# Altium integrated library Technik RCA Phono Jack.IntLib: 5 symbols
Pins are listed as number, name and electrical type; pins without a type are passive.

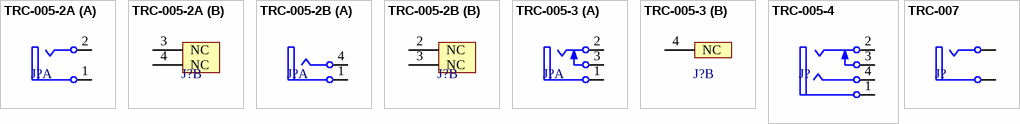
[diagram p0: symbols TRC-005-2A to TRC-007]

## TRC-005-2A
designator J?
RCA Phono Jack, Right Angle, Thru-Hole, Snap-In, 2-Conductor Open Circuit; PCB_Layout: Complies with manufacturer's recommendation.; DrillAndSlotSize: Corresponds to nominal value.; Published: 6-Jun-2005; DatasheetDocument: 29-Sep-2003; PackageDocument: 29-Sep-2003; PackageReference: TRC-005; Publisher: Altium Limited; ComponentLink1Description: Manufacturer Link; ComponentLink1URL: http://www.technik.com.hk/products/pop.asp?refno=TRC-005; ComponentLink2Description: Datasheet; ComponentLink2URL: http://www.technik.com.hk/files/RC005-PBT.pdf
footprint TRC-005 (RCA Phono Jack, Right Angle, Thru-Hole, Body 20.8 x 9.8 x 11 mm (LxWxH))
part A pins: 1 Black, 2 Yellow
part B pins: 3 NC "Not Connected", 4 NC "Not Connected"

## TRC-005-2B
designator J?
RCA Phono Jack, Right Angle, Thru-Hole, Snap-In, 2-Conductor Open Circuit; PCB_Layout: Complies with manufacturer's recommendation.; DrillAndSlotSize: Corresponds to nominal value.; Published: 6-Jun-2005; DatasheetDocument: 29-Sep-2003; PackageDocument: 29-Sep-2003; PackageReference: TRC-005; Publisher: Altium Limited; ComponentLink1Description: Manufacturer Link; ComponentLink1URL: http://www.technik.com.hk/products/pop.asp?refno=TRC-005; ComponentLink2Description: Datasheet; ComponentLink2URL: http://www.technik.com.hk/files/RC005-PBT.pdf
footprint TRC-005 (RCA Phono Jack, Right Angle, Thru-Hole, Body 20.8 x 9.8 x 11 mm (LxWxH))
part A pins: 1 Black, 4 Red
part B pins: 2 NC "Not Connected", 3 NC "Not Connected"

## TRC-005-3
designator J?
RCA Phono Jack, Right Angle, Thru-Hole, Snap-In, 2-Conductor Closed Circuit; PCB_Layout: Complies with manufacturer's recommendation.; DrillAndSlotSize: Corresponds to nominal value.; Published: 6-Jun-2005; DatasheetDocument: 29-Sep-2003; PackageDocument: 29-Sep-2003; PackageReference: TRC-005; Publisher: Altium Limited; ComponentLink1Description: Manufacturer Link; ComponentLink1URL: http://www.technik.com.hk/products/pop.asp?refno=TRC-005; ComponentLink2Description: Datasheet; ComponentLink2URL: http://www.technik.com.hk/files/RC005-PBT.pdf
footprint TRC-005 (RCA Phono Jack, Right Angle, Thru-Hole, Body 20.8 x 9.8 x 11 mm (LxWxH))
part A pins: 1 Black, 2 Yellow, 3 White
part B pins: 4 NC "Not Connected"

## TRC-005-4
designator J?
RCA Phono Jack, Right Angle, Thru-Hole, Snap-In, 3-Conductor - One open, one closed; PCB_Layout: Complies with manufacturer's recommendation.; DrillAndSlotSize: Corresponds to nominal value.; Published: 6-Jun-2005; DatasheetDocument: 29-Sep-2003; PackageDocument: 29-Sep-2003; PackageReference: TRC-005; Publisher: Altium Limited; ComponentLink1Description: Manufacturer Link; ComponentLink1URL: http://www.technik.com.hk/products/pop.asp?refno=TRC-005; ComponentLink2Description: Datasheet; ComponentLink2URL: http://www.technik.com.hk/files/RC005-PBT.pdf
footprint TRC-005 (RCA Phono Jack, Right Angle, Thru-Hole, Body 20.8 x 9.8 x 11 mm (LxWxH))
pins: 1 Black, 2 Yellow, 3 White, 4 Red

## TRC-007
designator J?
RCA Socket, Vertical, Thru-Hole, Snap-In, 2-Conductor Open Circuit; PCB_Layout: Complies with manufacturer's recommendation.; DrillAndSlotSize: Corresponds to nominal value.; Published: 6-Jun-2005; DatasheetDocument: 12-Mar-2004; PackageDocument: 12-Mar-2004; PackageReference: TRC-007; Publisher: Altium Limited; ComponentLink1Description: Manufacturer Link; ComponentLink1URL: http://www.technik.com.hk/products/pop.asp?refno=TRC-007; ComponentLink2Description: Datasheet; ComponentLink2URL: http://www.technik.com.hk/files/RC007-B.pdf
footprint TRC-007 (RCA Socket, Vertical, Thru-Hole, Body 10.6 x 10 x 15 mm (LxWxH))
pins: 1A Ground "Outer Shield (Sleeve)", 1B Ground "Outer Shield (Sleeve)", 2 Signal "Center Pin (Plug Tip)"